# Altium footprint library Power_PcbLib.PcbLib: 16 footprints
Each footprint in its own frame and in the unit in brackets; x right, y up, seen from the top. Pads: shape width x height; smd on the part's side, far side on the other; paste and mask are expansions set on the pad; w line width, h text height; cw(c..) or ccw(c..) is an arc to the next point about the centre after c.
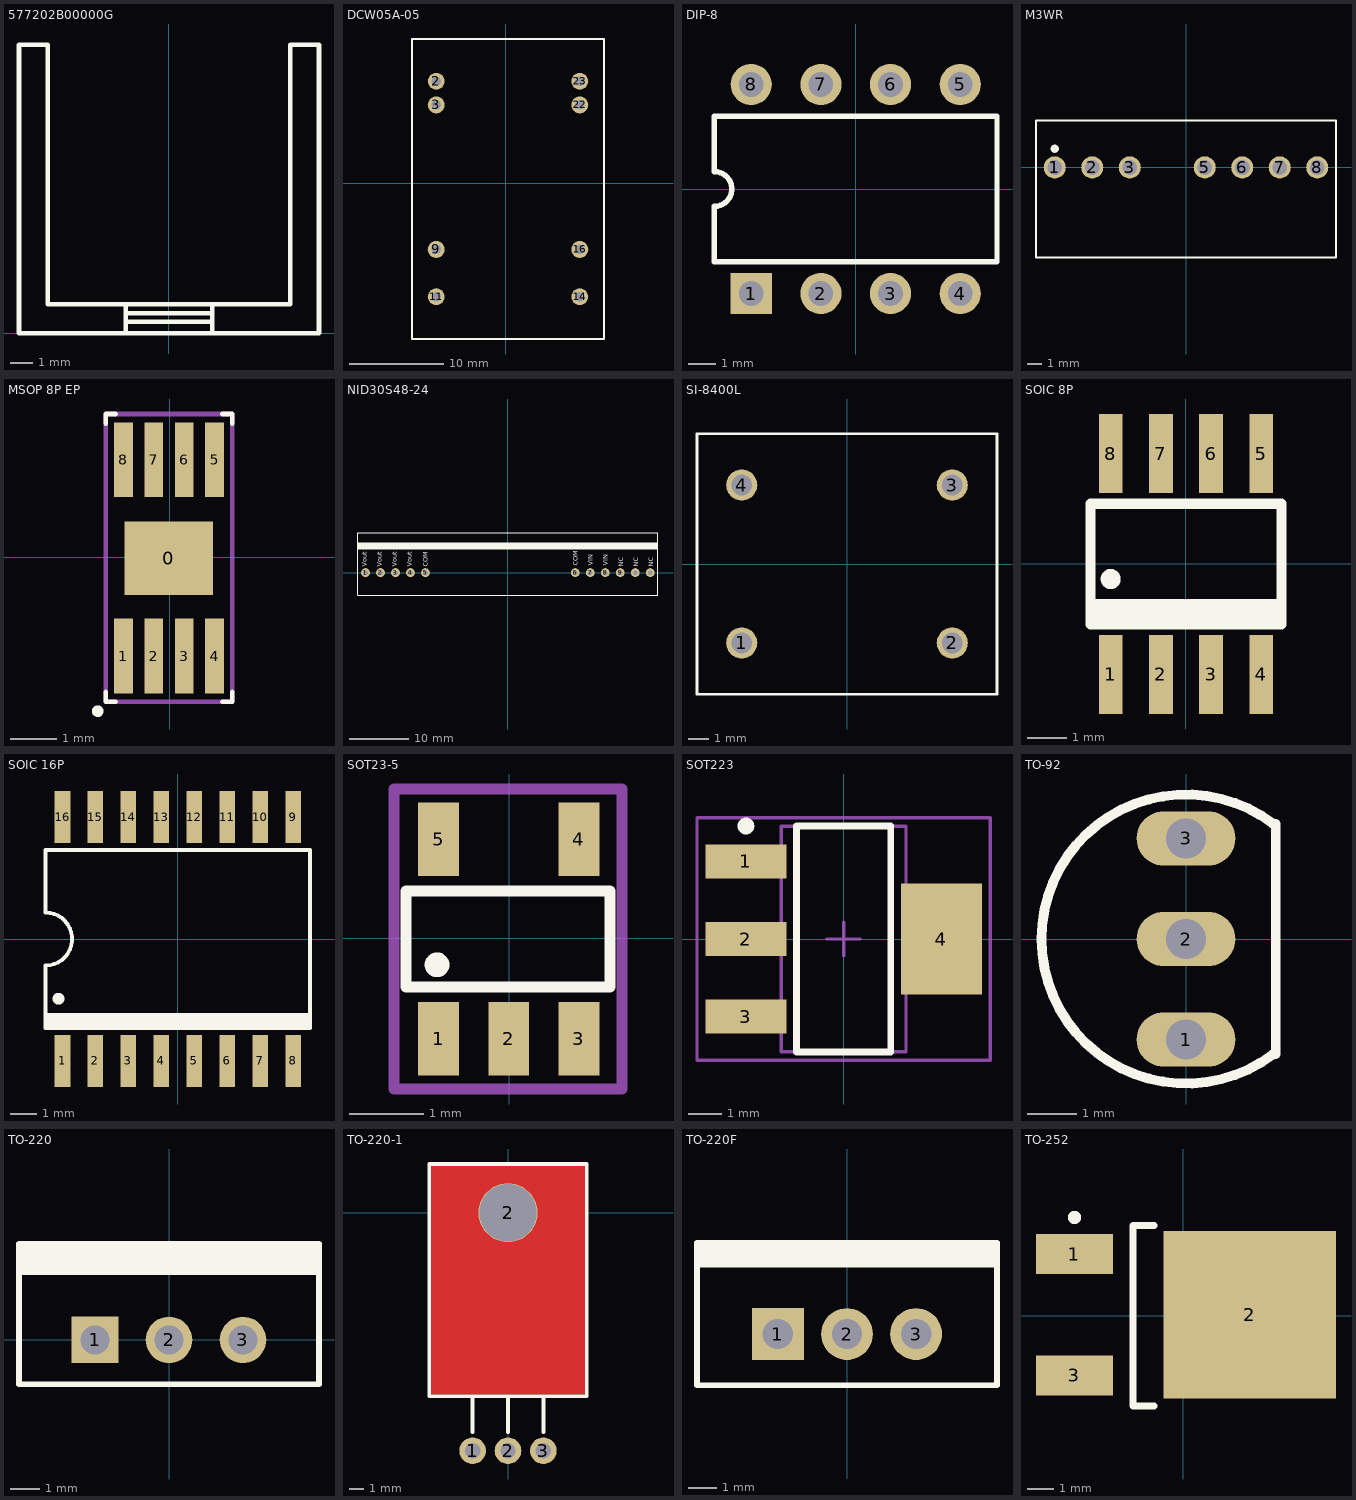
[diagram p0: the footprints below, top view; thin cyan lines are the x and y axes]

## 577202B00000G [mm]
Top Overlay:
  lines w0.2: -1.905,0 -1.905,1.27 ; -1.905,0.508 1.905,0.508 ; -1.905,0.889 1.905,0.889 ; 1.905,0 1.905,1.27 ; -6.604,0 6.604,0 6.604,12.7 5.334,12.7 5.334,1.27 -5.334,1.27 -5.334,12.7 -6.604,12.7 -6.604,0
3D body "User Library-577202B00000G.step": height 19.05, standoff 0, extent -6.604,0 6.604,12.7

## DCW05A-05 [mm]
pads (8):
  round 1.8 hole 1: 2(-7.346,10.765) 3(-7.346,8.265) 9(-7.346,-7.035) 11(-7.346,-12.035) 14(7.854,-12.035) 16(7.854,-7.035) 22(7.854,8.265) 23(7.854,10.765)
Top Overlay:
  lines w0.254: -9.906,-16.51 10.414,-16.51 10.414,15.24 -9.906,15.24 -9.906,-16.51

## DIP-8 [mm]
height 5.08
pads (8):
  rect 1.5x1.5 hole 0.9: 1(-3.81,-3.81)
  round 1.5 hole 0.9: 2(-1.27,-3.81) 3(1.27,-3.81) 4(3.81,-3.81) 5(3.81,3.81) 6(1.27,3.81) 7(-1.27,3.81) 8(-3.81,3.81)
Top Overlay:
  lines w0.2: -5.15,-2.65 -5.15,-0.635 ccw(c-5.15,0) -5.15,0.635 -5.15,2.65 5.15,2.65 5.15,-2.65 -5.15,-2.65
3D body "SW3DPS-DIP 8 IC-DEFAULT.STEP": height 5.08, standoff -3.5, extent -5.46,-3.935 5.46,3.935

## M3WR [mm] "M3WR-2412D"
pads (7):
  round 1.5 hole 1: 1(-8.89,0) 2(-6.35,0) 3(-3.81,0) 5(1.27,0) 6(3.81,0) 7(6.35,0) 8(8.89,0)
Top Overlay:
  circle w0.3: c-8.89,1.27 r0.127
  lines w0.15: -10.16,-6.096 -10.16,3.175 10.16,3.175 10.16,-6.096 -10.16,-6.096

## MSOP 8P EP [mm] "TI"
pads (9):
  rect 1.89x1.57 smd: 0(-0.02,-0.02)
  rect 0.4x1.6 smd: 1(-0.99,-2.11) 2(-0.34,-2.11) 3(0.31,-2.11) 4(0.96,-2.11) 5(0.96,2.09) 6(0.31,2.09) 7(-0.34,2.09) 8(-0.99,2.09)
Top Overlay:
  circle w0.127: c-1.54,-3.29 r0.06
  lines w0.1: -1.37,-2.88 -1.37,-3.09 -1.16,-3.09 ; -1.37,2.86 -1.37,3.07 -1.16,3.07 ; 1.13,-3.09 1.34,-3.09 1.34,-2.88 ; 1.13,3.07 1.34,3.07 1.34,2.86
Mechanical 15:
  lines w0.1: -1.37,-3.09 1.34,-3.09 1.34,3.07 -1.37,3.07 -1.37,-3.09
3D body "User Library-EMSOP-8 Natl Semi MUY08A.step": height 1.09, standoff -0.01, extent -1.52,-2.51 1.48,2.49

## NID30S48-24 [mm]
pads (11):
  round 1.5 hole 0.8: 1(-24.13,0) 2(-21.59,0) 3(-19.05,0) 4(-16.51,0) 5(-13.97,0) 6(11.43,0) 7(13.97,0) 8(16.51,0) 9(19.05,0) 10(21.59,0) 11(24.13,0)
Top Overlay:
  rectangle: -25.4,4.064 25.4,5.08
  lines w0.2: -25.4,4.064 25.4,4.064 ; -25.4,5.08 25.4,5.08 ; -25.4,-3.81 -25.4,6.731 25.4,6.731 25.4,-3.81 -25.4,-3.81
  text "NC" at 24.638,1.016 h0.8
  text "NC" at 22.098,1.016 h0.8
  text "NC" at 19.558,1.016 h0.8
  text "VIN" at 16.891,1.143 h0.8
  text "VIN" at 14.351,1.143 h0.8
  text "COM" at 11.811,1.143 h0.8
  text "COM" at -13.589,1.016 h0.8
  text "Vout" at -16.256,1.016 h0.8
  text "Vout" at -18.796,1.016 h0.8
  text "Vout" at -21.336,1.016 h0.8
  text "Vout" at -23.876,1.016 h0.8
3D body "NID30S48-24.STEP": height 13.5, standoff -4, extent -25.781,-3.969 25.719,6.731

## SI-8400L [mm]
pads (4):
  round 1.5 hole 1: 1(-5.08,-3.81) 2(5.08,-3.81) 3(5.08,3.81) 4(-5.08,3.81)
Top Overlay:
  lines w0.127: -7.239,-6.286 -7.239,6.286 7.239,6.286 7.239,-6.286 -7.239,-6.286
3D body "SI-8401L.STEP": height 13.2, standoff -4.7, extent -7.25,-6 7.25,6

## SOIC 8P [mm]
pads (8):
  rect 0.6x2 smd: 1(-1.905,-2.794) 2(-0.635,-2.794) 3(0.635,-2.794) 4(1.905,-2.794) 5(1.905,2.794) 6(0.635,2.794) 7(-0.635,2.794) 8(-1.905,2.794)
Top Overlay:
  circle w0.254: c-1.905,-0.381 r0.127
  rectangle: -2.413,-1.524 2.413,-1.016
  lines w0.254: -2.413,-1.016 2.413,-1.016 ; -2.413,-1.524 2.413,-1.524 2.413,1.524 -2.413,1.524 -2.413,-1.524
3D body "User Library-SOIC-8-1.step": height 1.75, standoff 0, extent -2.45,-3 2.45,3

## SOIC 16P [mm] "7.5mm X 10.3mm"
pads (16):
  rect 0.6x2 smd: 1(-4.445,-4.699) 2(-3.175,-4.699) 3(-1.905,-4.699) 4(-0.635,-4.699) 5(0.635,-4.699) 6(1.905,-4.699) 7(3.175,-4.699) 8(4.445,-4.699) 9(4.445,4.701) 10(3.175,4.701) 11(1.905,4.701) 12(0.635,4.701) 13(-0.635,4.701) 14(-1.905,4.701) 15(-3.175,4.701) 16(-4.445,4.701)
Top Overlay:
  circle w0.254: c-4.6,-2.3 r0.1
  rectangle: -5.099,-3.429 5.1,-2.921
  lines w0.15: -5.099,-2.921 5.1,-2.921 ; -5.099,-3.429 -5.099,-1.024 ccw(c-5.099,0) -5.099,1.024 -5.099,3.429 5.1,3.429 5.1,-3.429 -5.099,-3.429
3D body "User Library-so16w.step": height 3.5, standoff 0, extent -5.1,-5.15 5.1,5.15

## SOT23-5 [mm]
height 1.8
pads (5):
  rect 0.55x1 smd: 1(-0.96,-1.36) 2(-0.01,-1.36) 3(0.94,-1.36) 4(0.94,1.34) 5(-0.96,1.34)
Top Overlay:
  circle w0.254: c-0.98,-0.36 r0.04
  lines w0.15: -1.4,-0.66 -1.4,0.64 1.36,0.64 1.36,-0.66 -1.4,-0.66
Mechanical 15:
  lines w0.15: -1.56,-2.04 -1.56,2.02 1.52,2.02 1.52,-2.04 -1.56,-2.04
3D body "User Library-SOT23-5-2.step": height 1.45, standoff 0, extent -1.45,-1.4 1.45,1.4

## SOT223 [mm] "SOT223, 4-Leads, Body 6.5x3.5mm, Pitch 2.3mm, Lead Span 7mm, IPC Medium Density"
height 1.8
pads (4):
  rect 2.4x1 smd: 1(-2.9,2.3) 2(-2.9,0) 3(-2.9,-2.3)
  rect 2.4x3.3 smd: 4(2.9,0)
Top Overlay:
  circle w0.25: c-2.9,3.35 r0.125
  lines w0.2: -1.4,-3.35 1.4,-3.35 1.4,3.35 -1.4,3.35 -1.4,-3.35
Mechanical 13:
  lines w0.1: -1.85,-3.35 1.85,-3.35 1.85,3.35 -1.85,3.35 -1.85,-3.35
Mechanical 15:
  lines w0.1: -0.5,0 0.5,0 ; 0,-0.5 0,0.5 ; -4.35,-3.6 4.35,-3.6 4.35,3.6 -4.35,3.6 -4.35,-3.6
3D body "SW3dPS-SOT-223-1.STEP": height 1.64, standoff -0.01, extent -3.5,-3.25 3.5,3.25

## TO-92 [mm]
pads (3):
  oval 2x1.1 hole 0.8: 1(0,-2.032) 2(0,0) 3(0,2.032)
Top Overlay:
  lines w0.2: 1.764,-2.328 cw(c0,0) 1.764,2.328 ; 1.814,-2.328 1.814,2.328
3D body "User Library-TO92.step": height 9.7, standoff -1.6, extent -2.322,-2.765 1.778,2.765

## TO-220 [mm] "TO, Thru-Hole, Vertical, Heatsink Mounted; 3 In-Line Leads; Pitch 2.54 mm"
height 19.7
pads (3):
  rect 1.6x1.6 hole 1: 1(-2.54,0)
  round 1.6 hole 1: 2(0,0) 3(2.54,0)
Top Overlay:
  rectangle: -5.15,2.327 5.15,3.302
  lines w0.2: -5.15,2.327 5.15,2.327 ; -5.15,-1.524 5.15,-1.524 5.15,3.302 -5.15,3.302 -5.15,-1.524
3D body "CircuitWorks-TO-220HS.step": height 18.54, standoff -3.81, extent -5.08,-1.397 5.08,3.175

## TO-220-1 [mm] "平衡型"
pads (4):
  round 1.8 hole 1.05: 1(-2.4,-16.129) 2(0,-16.129) 3(2.4,-16.129)
  round 4 hole 3.89: 2(0,0)
Top Layer:
  rectangle: -5.207,-12.319 5.207,3.175
Top Overlay:
  lines w0.254: -2.413,-14.859 -2.413,-12.446 ; 0,-14.859 0,-12.446 ; 2.413,-14.859 2.413,-12.446 ; -5.334,-12.446 5.334,-12.446 5.334,3.302 -5.334,3.302 -5.334,-12.446
Top Solder:
  rectangle: -5.207,-12.319 5.207,3.175
3D body "CircuitWorks-TO-220.step": height 4.2, standoff -3, extent -5.08,-16.379 5.08,3.111

## TO-220F [mm]
pads (3):
  rect 1.8x1.8 hole 1.05: 1(-2.4,-16.129)
  round 1.8 hole 1.05: 2(0,-16.129) 3(2.4,-16.129)
Top Overlay:
  rectangle: -5.207,-13.716 5.207,-12.954
  lines w0.2: -5.207,-13.716 5.207,-13.716 ; -5.207,-17.907 5.207,-17.907 5.207,-12.954 -5.207,-12.954 -5.207,-17.907
3D body "User Library-Transistors TO-220F-3FS.step": height 25.87, standoff -2.98, extent -5.07,-17.78 5.07,-13.08

## TO-252 [mm]
height 4.69
pads (3):
  rect 2.9x1.5 smd: 1(-4.1,2.322) 3(-4.1,-2.25)
  rect 6.5x6.3 smd: 2(2.5,0.036)
Top Overlay:
  circle w0.25: c-4.1,3.7 r0.125
  lines w0.254: -1.1,-3.4 -1.9,-3.4 -1.9,3.4 -1.1,3.4
3D body "User Library-DPAK_TO-252AA.step": height 2.37, standoff -0.03, extent -4.998,-3.367 5.102,3.367